# Altium footprint library Copy of DS1013-10S.PcbLib: 1 footprints
Each footprint in its own frame and in the unit in brackets; x right, y up, seen from the top. Pads: shape width x height; smd on the part's side, far side on the other; paste and mask are expansions set on the pad; w line width, h text height; cw(c..) or ccw(c..) is an arc to the next point about the centre after c.
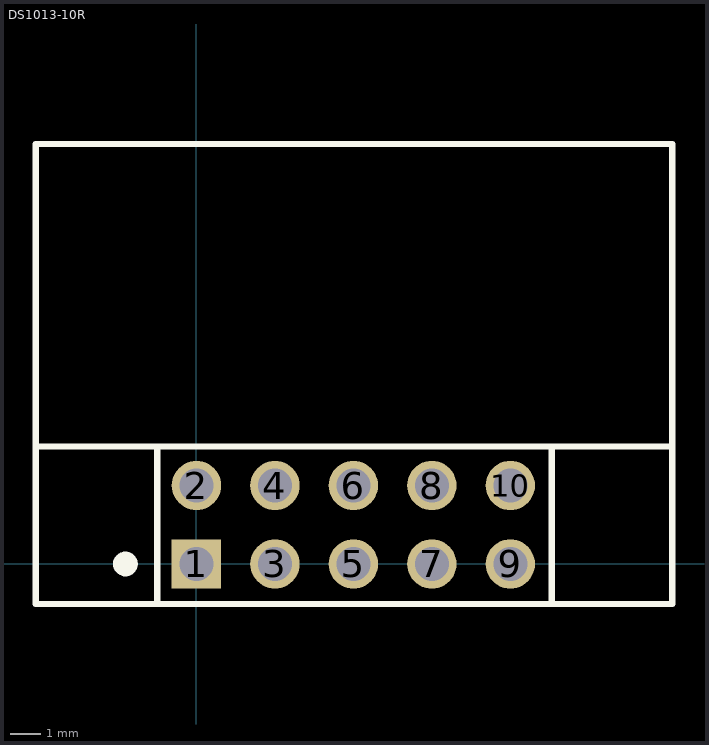
[diagram p0: the footprint, top view; thin cyan lines are the x and y axes]

## DS1013-10R [mm]
pads (10):
  rect 1.6x1.6 hole 1.1: 1(0,0)
  round 1.6 hole 1.1: 2(0,2.54) 3(2.54,0) 4(2.54,2.54) 5(5.08,0) 6(5.08,2.54) 7(7.62,0) 8(7.62,2.54) 9(10.16,0) 10(10.16,2.54)
Top Overlay:
  circle w0.4: c-2.3,0 r0.2
  lines w0.2: -5.2,3.8 -1.27,3.8 ; 11.5,-1.283 11.5,3.8 ; 15.4,3.8 11.5,3.8 ; -1.27,-1.3 -1.27,3.8 ; -1.27,-1.3 15.4,-1.3 15.4,13.6 -5.2,13.6 -5.2,-1.3 -1.27,-1.3 ; -1.27,3.8 11.5,3.8
3D body "DS1013-10R.STEP": height 9.35, standoff -2.4, extent -5.1,-0.4 15.3,13.48